# EAGLE library part SAA1064 (library Components Library)
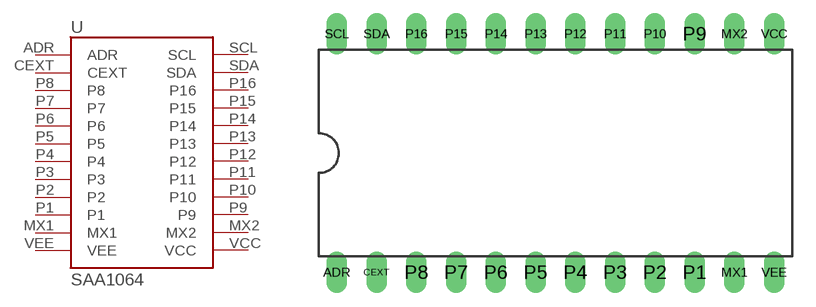
[diagram p9: symbol with the pads of SAA1064; footprint SAA1064]

Designator prefix -

## SAA1064  [SAA1064]
ADR  ADR
CEXT  CEXT
MX1  MX1
MX2  MX2
P1  P1
P2  P2
P3  P3
P4  P4
P5  P5
P6  P6
P7  P7
P8  P8
P9  P9
P10  P10
P11  P11
P12  P12
P13  P13
P14  P14
P15  P15
P16  P16
SCL  SCL
SDA  SDA
VCC  VCC
VEE  VEE

## Footprint SAA1064 (pad centres in mm)
drill 0.813 long: ADR -17.78,-8.89; CEXT -15.24,-8.89; MX1 7.62,-8.89; MX2 7.62,6.35; P1 5.08,-8.89; P2 2.54,-8.89; P3 0,-8.89; P4 -2.54,-8.89; P5 -5.08,-8.89; P6 -7.62,-8.89; P7 -10.16,-8.89; P8 -12.7,-8.89; P9 5.08,6.35; P10 2.54,6.35; P11 0,6.35; P12 -2.54,6.35; P13 -5.08,6.35; P14 -7.62,6.35; P15 -10.16,6.35; P16 -12.7,6.35; SCL -17.78,6.35; SDA -15.24,6.35; VCC 10.16,6.35; VEE 10.16,-8.89